# Altium integrated library PogoPinHandBoard.IntLib: 2 symbols
Pins are listed as number, name and electrical type; pins without a type are passive.

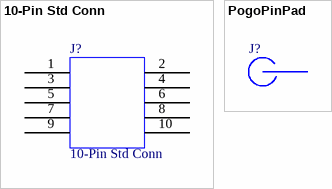
[diagram p0: symbols 10-Pin Std Conn to PogoPinPad]

## 10-Pin Std Conn
designator J?
footprint FTSH-105-01-F-DV
pins: 1 Pin, 2 Pin, 3 Pin, 4 Pin, 5 Pin, 6 Pin, 7 Pin, 8 Pin, 9 Pin, 10 Pin

## PogoPinPad
designator J?  (value not drawn)
pins: 1 Pin